# EAGLE library part FPC-19WAY (library pimoroni-fpc)
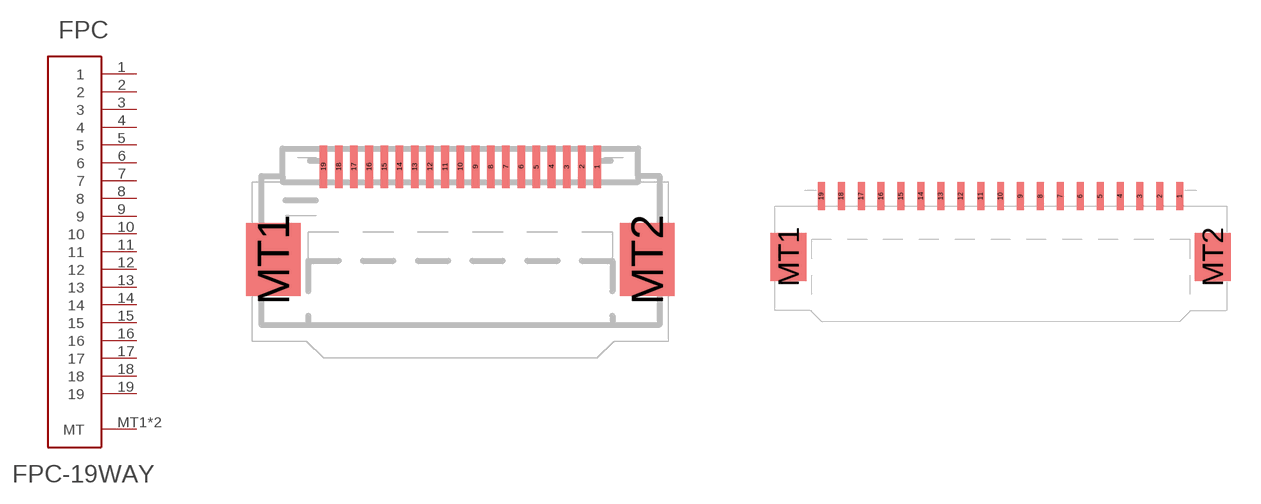
[diagram p14: symbol with the pads of FPC-0.5MM-19WAY; footprints FPC-0.5MM-19WAY, FPC-1.0MM-19WAY]

Designator prefix FPC

## FPC-19WAY0.5  [FPC-0.5MM-19WAY]
1  1
2  2
3  3
4  4
5  5
6  6
7  7
8  8
9  9
10  10
11  11
12  12
13  13
14  14
15  15
16  16
17  17
18  18
19  19
MT1  MT
MT2  MT

## FPC-19WAY1.0  [FPC-1.0MM-19WAY]
Pads as for FPC-0.5MM-19WAY

## Footprint FPC-0.5MM-19WAY (pad centres in mm)
smd 0.25 x 1.4: 1 4.5,0.7; 2 4,0.7; 3 3.5,0.7; 4 3,0.7; 5 2.5,0.7; 6 2,0.7; 7 1.5,0.7; 8 1,0.7; 9 0.5,0.7; 10 0,0.7; 11 -0.5,0.7; 12 -1,0.7; 13 -1.5,0.7; 14 -2,0.7; 15 -2.5,0.7; 16 -3,0.7; 17 -3.5,0.7; 18 -4,0.7; 19 -4.5,0.7
smd 1.8 x 2.4: MT1 -6.15,-2.35; MT2 6.15,-2.35

## Footprint FPC-1.0MM-19WAY (pad centres in mm)
smd 0.35 x 1.4: 1 9,0.7; 2 8,0.7; 3 7,0.7; 4 6,0.7; 5 5,0.7; 6 4,0.7; 7 3,0.7; 8 2,0.7; 9 1,0.7; 10 0,0.7; 11 -1,0.7; 12 -2,0.7; 13 -3,0.7; 14 -4,0.7; 15 -5,0.7; 16 -6,0.7; 17 -7,0.7; 18 -8,0.7; 19 -9,0.7
smd 1.8 x 2.4: MT1 -10.65,-2.35; MT2 10.65,-2.35